# Altium schematic symbol library kmilo17pet-TI_BattMgmt.SchLib: 950 symbols (part 18 of 60)
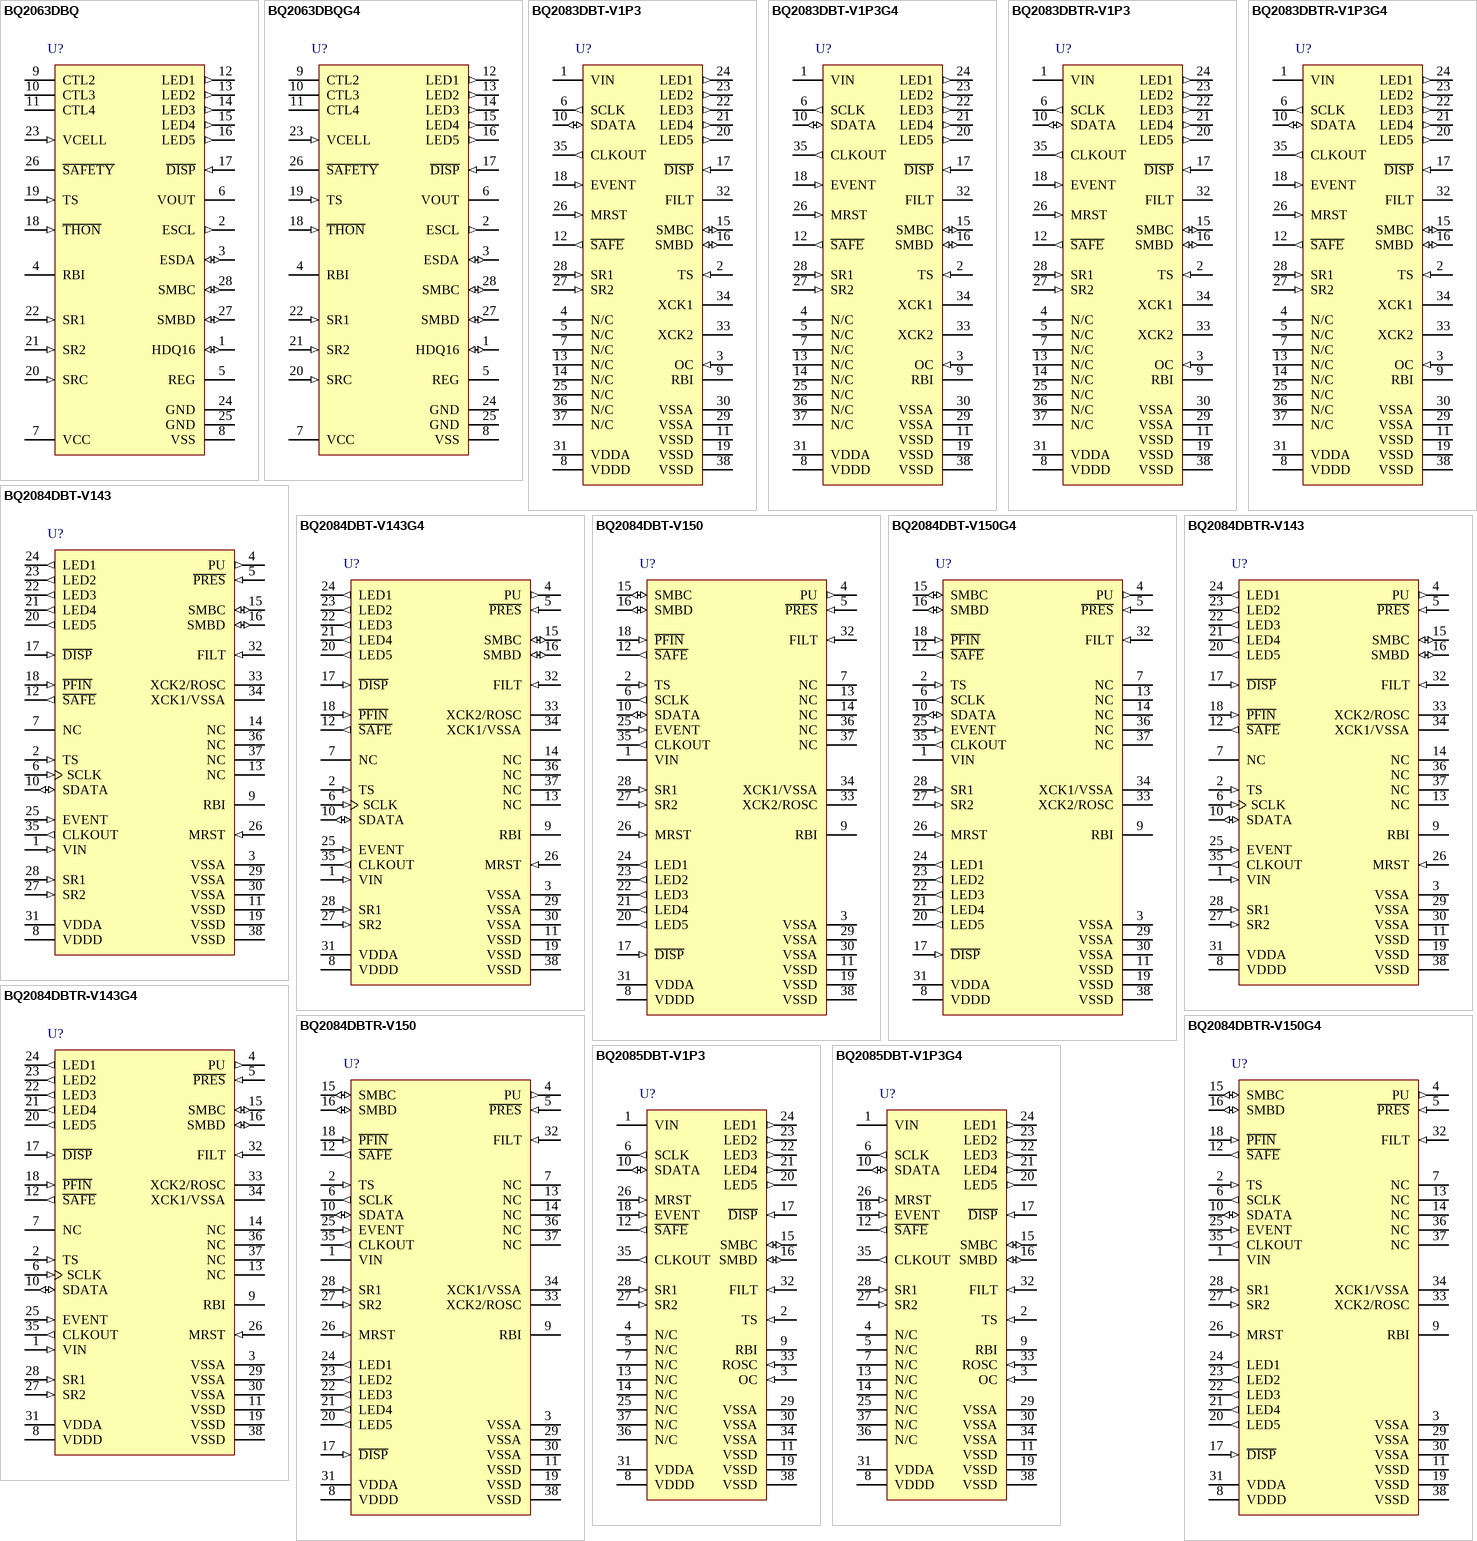
[diagram p51: symbols BQ2063DBQ to BQ2085DBT-V1P3G4]

## BQ2085DBT-V1P3G4
designator U?
SBS-Compliant Gas Gauge IC for Use with the bq29311, -20 to 85 degC, 38-pin TSSOP (DBT), Green (RoHS & no Sb/Br); PartNumber: BQ2085DBT-V1P3G4; Manufacturer: Texas Instruments; Lead Acid: N; SubFamily: Battery Fuel Gauge; DatasheetVersion: SLUS598; PackageVersion: revI, Mar-2011; PackageReference: DBT38; PackageDescription: 38-Pin Plastic Small Outline 0.5 mm Pitch; Supplier 1: Digi-Key; Supplier Part Number 1: BQ2085DBT-V1P3G4-ND; Supplier Part Number 3: 595-BQ2085DBT-V1P3G4; Eco-Plan: Green (RoHS & no Sb/Br); Li-Ion: N; Li-Polymer: N; NiCd: N; NiMH: N; Over Voltage Protection: N; Mounting Technology: Surface Mount; Code_JEDEC: MO-153; ComponentLink1Description: Datasheet; ComponentLink1URL: http://www.ti.com/general/docs/lit/getliterature.tsp?genericPartNumber=BQ2085-V1P3&fileType=pdf
footprint DBT38_N (TSSOP, 38-Leads, Body 9.7x4.4mm, Pitch 0.5mm, IPC Medium Density)
footprint DBT38_L (TSSOP, 38-Leads, Body 9.7x4.4mm, Pitch 0.5mm, IPC High Density)
footprint DBT38_M (TSSOP, 38-Leads, Body 9.7x4.4mm, Pitch 0.5mm, IPC Low Density)
pins: 1 VIN (power) "Single-cell voltage input from the bq29311", 2 TS (in) "Thermistor voltage input connection to monitor temperature", 3 OC (in) "Analog input for auto ADC offset compensation; should be connected to VSSA", 4 N/C "No connection", 5 N/C "No connection", 6 SCLK (out) "Communication clock to the bq29311", 7 N/C "No connection", 8 VDDD (power) "Positive supply for digital circuitry and I/O pins", 9 RBI (power) "Register backup that provides backup potential to the bq2085-V1P3 data registers during periods of low operating voltage. RBI accepts a storage capacitor or a battery input.", 10 SDATA (io) "Data transfer to and from bq29311", 11 VSSD (power) "Negative supply for digital circuitry", 12 ~{SAFE} (out) "Output for additional level of safety protection; e.g., fuse blow.", 13 N/C "No connection", 14 N/C "No connection", 15 SMBC (io) "SMBus clock open-drain bidirectional pin used to clock the data transfer to and from the bq2085-V1P3", 16 SMBD (io) "SMBus data open-drain bidirectional pin used to transfer address and data to and from the bq2085-V1P3", 17 ~{DISP} (in) "Display control for the LED drivers LED1 through LED5", 18 EVENT (in) "Input from bq29311 XALERT output", 19 VSSD (power) "Negative supply for digital circuitry", 20 LED5 (out) "LED display segments that each may drive an external LED", 21 LED4 (out) "LED display segments that each may drive an external LED", 22 LED3 (out) "LED display segments that each may drive an external LED", 23 LED2 (out) "LED display segments that each may drive an external LED", 24 LED1 (out) "LED display segments that each may drive an external LED", 25 N/C "No connection", 26 MRST (in) "Master reset input that forces the device into reset when held high", 27 SR2 (in) "Connections for a small-value sense resistor to monitor the battery charge- and discharge-current flow", 28 SR1 (in) "Connections for a small-value sense resistor to monitor the battery charge- and discharge-current flow", 29 VSSA (power) "Negative supply for output circuitry", 30 VSSA (power) "Negative supply for analog circuitry", 31 VDDA (power) "Positive supply for analog circuitry", 32 FILT (in) "Analog input connected to the external PLL filter", 33 ROSC (in) "Internal time base bias input", 34 VSSA (power) "Negative supply for analog circuitry", 35 CLKOUT (out) "32.768-kHz output to the bq29311", 36 N/C "No connection", 37 N/C "No connection", 38 VSSD (power) "Negative supply for digital circuitry"

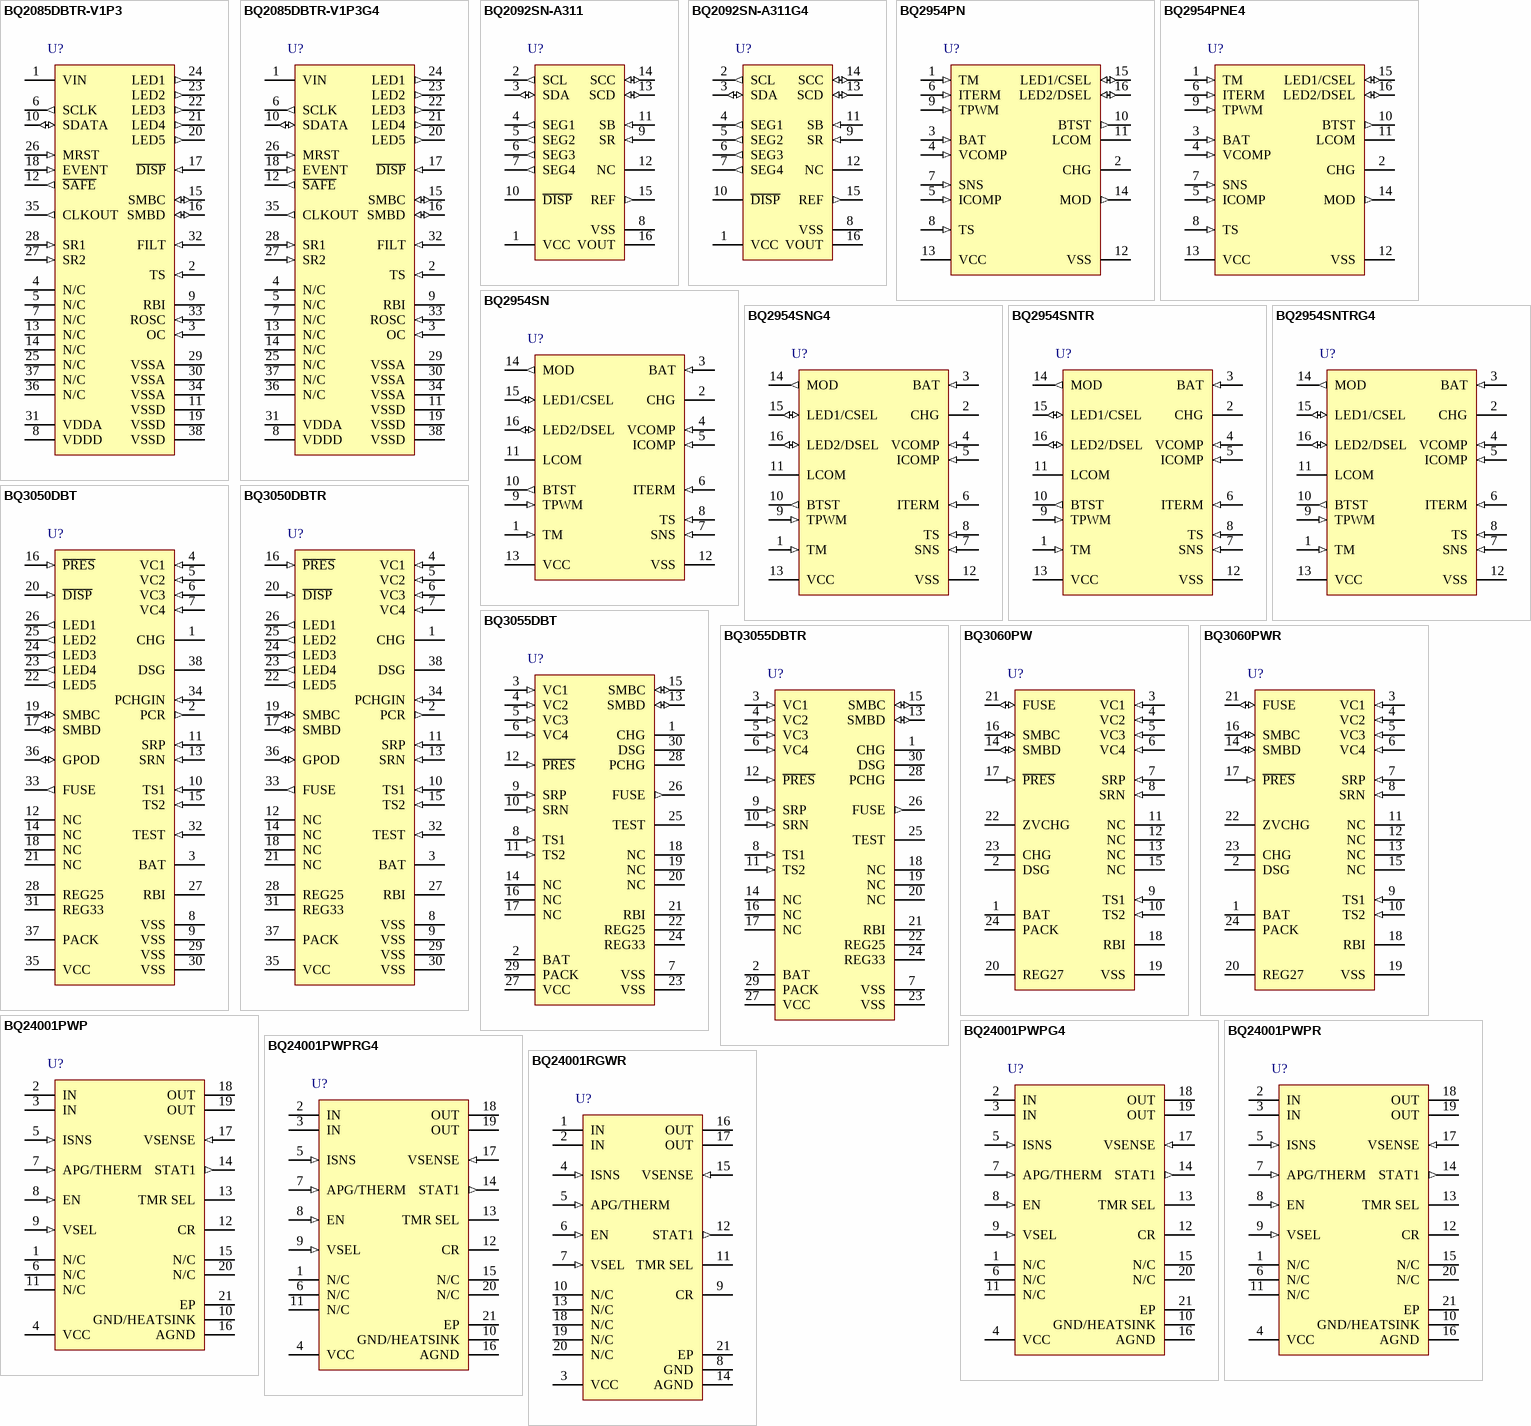
[diagram p10: symbols BQ2085DBTR-V1P3 to BQ24001RGWR]

## BQ2085DBTR-V1P3
designator U?
SBS-Compliant Gas Gauge IC for Use with the bq29311, -20 to 85 degC, 38-pin TSSOP (DBT), Green (RoHS & no Sb/Br); PartNumber: BQ2085DBTR-V1P3; Manufacturer: Texas Instruments; Lead Acid: N; SubFamily: Battery Fuel Gauge; DatasheetVersion: SLUS598; PackageVersion: revI, Mar-2011; PackageReference: DBT38; PackageDescription: 38-Pin Plastic Small Outline 0.5 mm Pitch; Supplier 1: Digi-Key; Supplier Part Number 1: BQ2085DBTR-V1P3-ND; Supplier Part Number 3: 595-BQ2085DBTR-V1P3; Eco-Plan: Green (RoHS & no Sb/Br); Li-Ion: N; Li-Polymer: N; NiCd: N; NiMH: N; Over Voltage Protection: N; Mounting Technology: Surface Mount; Code_JEDEC: MO-153; ComponentLink1Description: Datasheet; ComponentLink1URL: http://www.ti.com/general/docs/lit/getliterature.tsp?genericPartNumber=BQ2085-V1P3&fileType=pdf
footprint DBT38_N (TSSOP, 38-Leads, Body 9.7x4.4mm, Pitch 0.5mm, IPC Medium Density)
footprint DBT38_L (TSSOP, 38-Leads, Body 9.7x4.4mm, Pitch 0.5mm, IPC High Density)
footprint DBT38_M (TSSOP, 38-Leads, Body 9.7x4.4mm, Pitch 0.5mm, IPC Low Density)
pins: 1 VIN (power) "Single-cell voltage input from the bq29311", 2 TS (in) "Thermistor voltage input connection to monitor temperature", 3 OC (in) "Analog input for auto ADC offset compensation; should be connected to VSSA", 4 N/C "No connection", 5 N/C "No connection", 6 SCLK (out) "Communication clock to the bq29311", 7 N/C "No connection", 8 VDDD (power) "Positive supply for digital circuitry and I/O pins", 9 RBI (power) "Register backup that provides backup potential to the bq2085-V1P3 data registers during periods of low operating voltage. RBI accepts a storage capacitor or a battery input.", 10 SDATA (io) "Data transfer to and from bq29311", 11 VSSD (power) "Negative supply for digital circuitry", 12 ~{SAFE} (out) "Output for additional level of safety protection; e.g., fuse blow.", 13 N/C "No connection", 14 N/C "No connection", 15 SMBC (io) "SMBus clock open-drain bidirectional pin used to clock the data transfer to and from the bq2085-V1P3", 16 SMBD (io) "SMBus data open-drain bidirectional pin used to transfer address and data to and from the bq2085-V1P3", 17 ~{DISP} (in) "Display control for the LED drivers LED1 through LED5", 18 EVENT (in) "Input from bq29311 XALERT output", 19 VSSD (power) "Negative supply for digital circuitry", 20 LED5 (out) "LED display segments that each may drive an external LED", 21 LED4 (out) "LED display segments that each may drive an external LED", 22 LED3 (out) "LED display segments that each may drive an external LED", 23 LED2 (out) "LED display segments that each may drive an external LED", 24 LED1 (out) "LED display segments that each may drive an external LED", 25 N/C "No connection", 26 MRST (in) "Master reset input that forces the device into reset when held high", 27 SR2 (in) "Connections for a small-value sense resistor to monitor the battery charge- and discharge-current flow", 28 SR1 (in) "Connections for a small-value sense resistor to monitor the battery charge- and discharge-current flow", 29 VSSA (power) "Negative supply for output circuitry", 30 VSSA (power) "Negative supply for analog circuitry", 31 VDDA (power) "Positive supply for analog circuitry", 32 FILT (in) "Analog input connected to the external PLL filter", 33 ROSC (in) "Internal time base bias input", 34 VSSA (power) "Negative supply for analog circuitry", 35 CLKOUT (out) "32.768-kHz output to the bq29311", 36 N/C "No connection", 37 N/C "No connection", 38 VSSD (power) "Negative supply for digital circuitry"

## BQ2085DBTR-V1P3G4
designator U?
SBS-Compliant Gas Gauge IC for Use with the bq29311, -20 to 85 degC, 38-pin TSSOP (DBT), Green (RoHS & no Sb/Br); PartNumber: BQ2085DBTR-V1P3G4; Manufacturer: Texas Instruments; Lead Acid: N; SubFamily: Battery Fuel Gauge; DatasheetVersion: SLUS598; PackageVersion: revI, Mar-2011; PackageReference: DBT38; PackageDescription: 38-Pin Plastic Small Outline 0.5 mm Pitch; Supplier 1: Digi-Key; Supplier Part Number 1: BQ2085DBTR-V1P3G4-ND; Supplier Part Number 3: 595-BQ2085DBTR1P3G4; Eco-Plan: Green (RoHS & no Sb/Br); Li-Ion: N; Li-Polymer: N; NiCd: N; NiMH: N; Over Voltage Protection: N; Mounting Technology: Surface Mount; Code_JEDEC: MO-153; ComponentLink1Description: Datasheet; ComponentLink1URL: http://www.ti.com/general/docs/lit/getliterature.tsp?genericPartNumber=BQ2085-V1P3&fileType=pdf
footprint DBT38_N (TSSOP, 38-Leads, Body 9.7x4.4mm, Pitch 0.5mm, IPC Medium Density)
footprint DBT38_L (TSSOP, 38-Leads, Body 9.7x4.4mm, Pitch 0.5mm, IPC High Density)
footprint DBT38_M (TSSOP, 38-Leads, Body 9.7x4.4mm, Pitch 0.5mm, IPC Low Density)
pins: 1 VIN (power) "Single-cell voltage input from the bq29311", 2 TS (in) "Thermistor voltage input connection to monitor temperature", 3 OC (in) "Analog input for auto ADC offset compensation; should be connected to VSSA", 4 N/C "No connection", 5 N/C "No connection", 6 SCLK (out) "Communication clock to the bq29311", 7 N/C "No connection", 8 VDDD (power) "Positive supply for digital circuitry and I/O pins", 9 RBI (power) "Register backup that provides backup potential to the bq2085-V1P3 data registers during periods of low operating voltage. RBI accepts a storage capacitor or a battery input.", 10 SDATA (io) "Data transfer to and from bq29311", 11 VSSD (power) "Negative supply for digital circuitry", 12 ~{SAFE} (out) "Output for additional level of safety protection; e.g., fuse blow.", 13 N/C "No connection", 14 N/C "No connection", 15 SMBC (io) "SMBus clock open-drain bidirectional pin used to clock the data transfer to and from the bq2085-V1P3", 16 SMBD (io) "SMBus data open-drain bidirectional pin used to transfer address and data to and from the bq2085-V1P3", 17 ~{DISP} (in) "Display control for the LED drivers LED1 through LED5", 18 EVENT (in) "Input from bq29311 XALERT output", 19 VSSD (power) "Negative supply for digital circuitry", 20 LED5 (out) "LED display segments that each may drive an external LED", 21 LED4 (out) "LED display segments that each may drive an external LED", 22 LED3 (out) "LED display segments that each may drive an external LED", 23 LED2 (out) "LED display segments that each may drive an external LED", 24 LED1 (out) "LED display segments that each may drive an external LED", 25 N/C "No connection", 26 MRST (in) "Master reset input that forces the device into reset when held high", 27 SR2 (in) "Connections for a small-value sense resistor to monitor the battery charge- and discharge-current flow", 28 SR1 (in) "Connections for a small-value sense resistor to monitor the battery charge- and discharge-current flow", 29 VSSA (power) "Negative supply for output circuitry", 30 VSSA (power) "Negative supply for analog circuitry", 31 VDDA (power) "Positive supply for analog circuitry", 32 FILT (in) "Analog input connected to the external PLL filter", 33 ROSC (in) "Internal time base bias input", 34 VSSA (power) "Negative supply for analog circuitry", 35 CLKOUT (out) "32.768-kHz output to the bq29311", 36 N/C "No connection", 37 N/C "No connection", 38 VSSD (power) "Negative supply for digital circuitry"

## BQ2092SN-A311
designator U?
Multi-Chemistry SBS 0.95 Compliant Gas Gauge with 4 LED Drivers, 0 to 70 degC, 16-pin SOIC (D), Green (RoHS & no Sb/Br); PartNumber: BQ2092SN-A311; Manufacturer: Texas Instruments; Lead Acid: Y; Li-Polymer: N; SubFamily: Battery Fuel Gauge; PackageVersion: revM, Jun-2011; PackageReference: D16; PackageDescription: 16-Pin Plastic Small Outline Integrated Circuit, 9.9 x 3.9 mm, Pitch 1.27 mm Pitch; Supplier 1: Digi-Key; Supplier Part Number 1: BQ2092SN-A311-ND; Supplier Part Number 3: 595-BQ2092SN-A311; Eco-Plan: Green (RoHS & no Sb/Br); Li-Ion: Y; NiCd: Y; NiMH: Y; Over Voltage Protection: N; Mounting Technology: Surface Mount; Code_JEDEC: MS-012AC; ComponentLink1Description: Datasheet; ComponentLink1URL: http://www.ti.com/general/docs/lit/getliterature.tsp?genericPartNumber=BQ2092&fileType=pdf
footprint D16_N (SOIC, 16-Leads, Body 9.9x3.9mm, Pitch 1.27mm, IPC Medium Density)
footprint D16_L (SOIC, 16-Leads, Body 9.9x3.9mm, Pitch 1.27mm, IPC High Density)
footprint D16_M (SOIC, 16-Leads, Body 9.9x3.9mm, Pitch 1.27mm, IPC Low Density)
pins: 1 VCC (power) "Supply voltage input", 2 SCL (out) "This output is used to clock the data transfer between the bq2092 and the external nonvolatile configuration memory.", 3 SDA (io) "This bi-directional pin is used to transfer address and data to and from the bq2092 and the external configuration memory.", 4 SEG1 (out) "Each output may activate an external LED to sink the current sourced from VCC.", 5 SEG2 (out) "Each output may activate an external LED to sink the current sourced from VCC.", 6 SEG3 (out) "Each output may activate an external LED to sink the current sourced from VCC.", 7 SEG4 (out) "Each output may activate an external LED to sink the current sourced from VCC.", 8 VSS (power) "Ground", 9 SR (in) "The voltage drop (VSR) across pins SR and VSS is monitored and integrated over time to interpret charge and discharge activity.The SR input is connected to the sense resistor and the negative terminal of the battery. VSR < (See Datasheet)", 10 ~{DISP} "D\I\S\P\ high disables the LED display.D\I\S\P\ floating allows the LED display to be active during charge if the rate is greater than 100mA.D\I\S\P\ low activates the display for 4 seconds.", 11 SB (in) "This input monitors the cell pack voltage as a single-cell potential through a highimpedance resistor divider network. The cell pack voltage is reported in the SBD register function Voltage (0x09) and is compared to (See Datasheet)", 12 NC "No connect", 13 SCD (io) "This open-drain bidirectional pin is used to transfer address and data to and from the bq2092.", 14 SCC (io) "This open-drain bidirectional pin is used to clock the data transfer to and from the bq2092.", 15 REF (out) "REF provides a reference output for an optional micro-regulator.", 16 VOUT (power) "This output supplies power to the external EEPROM configuration memory."

## BQ2092SN-A311G4
designator U?
Multi-Chemistry SBS 0.95 Compliant Gas Gauge with 4 LED Drivers, 0 to 70 degC, 16-pin SOIC (D), Green (RoHS & no Sb/Br); PartNumber: BQ2092SN-A311G4; Manufacturer: Texas Instruments; Lead Acid: Y; Li-Polymer: N; SubFamily: Battery Fuel Gauge; PackageVersion: revM, Jun-2011; PackageReference: D16; PackageDescription: 16-Pin Plastic Small Outline Integrated Circuit, 9.9 x 3.9 mm, Pitch 1.27 mm Pitch; Supplier 1: Digi-Key; Supplier Part Number 1: BQ2092SN-A311G4-ND; Supplier Part Number 3: 595-BQ2092SN-A311G4; Eco-Plan: Green (RoHS & no Sb/Br); Li-Ion: Y; NiCd: Y; NiMH: Y; Over Voltage Protection: N; Mounting Technology: Surface Mount; Code_JEDEC: MS-012AC; ComponentLink1Description: Datasheet; ComponentLink1URL: http://www.ti.com/general/docs/lit/getliterature.tsp?genericPartNumber=BQ2092&fileType=pdf
footprint D16_N (SOIC, 16-Leads, Body 9.9x3.9mm, Pitch 1.27mm, IPC Medium Density)
footprint D16_L (SOIC, 16-Leads, Body 9.9x3.9mm, Pitch 1.27mm, IPC High Density)
footprint D16_M (SOIC, 16-Leads, Body 9.9x3.9mm, Pitch 1.27mm, IPC Low Density)
pins: 1 VCC (power) "Supply voltage input", 2 SCL (out) "This output is used to clock the data transfer between the bq2092 and the external nonvolatile configuration memory.", 3 SDA (io) "This bi-directional pin is used to transfer address and data to and from the bq2092 and the external configuration memory.", 4 SEG1 (out) "Each output may activate an external LED to sink the current sourced from VCC.", 5 SEG2 (out) "Each output may activate an external LED to sink the current sourced from VCC.", 6 SEG3 (out) "Each output may activate an external LED to sink the current sourced from VCC.", 7 SEG4 (out) "Each output may activate an external LED to sink the current sourced from VCC.", 8 VSS (power) "Ground", 9 SR (in) "The voltage drop (VSR) across pins SR and VSS is monitored and integrated over time to interpret charge and discharge activity.The SR input is connected to the sense resistor and the negative terminal of the battery. VSR < (See Datasheet)", 10 ~{DISP} "D\I\S\P\ high disables the LED display.D\I\S\P\ floating allows the LED display to be active during charge if the rate is greater than 100mA.D\I\S\P\ low activates the display for 4 seconds.", 11 SB (in) "This input monitors the cell pack voltage as a single-cell potential through a highimpedance resistor divider network. The cell pack voltage is reported in the SBD register function Voltage (0x09) and is compared to (See Datasheet)", 12 NC "No connect", 13 SCD (io) "This open-drain bidirectional pin is used to transfer address and data to and from the bq2092.", 14 SCC (io) "This open-drain bidirectional pin is used to clock the data transfer to and from the bq2092.", 15 REF (out) "REF provides a reference output for an optional micro-regulator.", 16 VOUT (power) "This output supplies power to the external EEPROM configuration memory."

## BQ2954PN
designator U?
Switch-Mode Li-Ion Charge Controller, 4.5 V, 0 to 70 degC, 16-pin PDIP (N), Pb-Free (RoHS); PartNumber: BQ2954PN; Manufacturer: Texas Instruments; Li-Ion: Y; SubFamily: Battery Charge Management; Vin(Min)(V): 4.5; DatasheetVersion: SLUS064; PackageVersion: revE, Dec-2002; PackageReference: N16; PackageDescription: 16-Pin Plastic Dual-In-Line Package, Row Spacing 7.62 mm, Pitch 2.54 mm; Supplier 1: Digi-Key; Supplier Part Number 1: 296-9387-5-ND; Supplier Part Number 3: 595-BQ2954PN; Eco-Plan: Pb-Free (RoHS); Lead Acid: N; Li-Polymer: Y; NiCd: N; NiMH: N; Over Voltage Protection: N; Mounting Technology: Through Hole; Code_JEDEC: MS-001*; ComponentLink1Description: Datasheet; ComponentLink1URL: http://www.ti.com/general/docs/lit/getliterature.tsp?genericPartNumber=BQ2954&fileType=pdf
footprint N16 (DIP, 16-Leads, Row Spacing 7.62mm, Pitch 2.54mm, Body 19.3x6.4mm)
pins: 1 TM (in) "Time-out programming input", 2 CHG (oc) "Charge active output", 3 BAT (in) "Battery voltage input", 4 VCOMP (in) "Voltage loop comp input", 5 ICOMP (in) "Current loop comp input", 6 ITERM (in) "Minimum current termination select input", 7 SNS (in) "Sense resistor input", 8 TS (in) "Temperature sense input", 9 TPWM (in) "Regulator timebase input", 10 BTST (out) "Battery test output", 11 LCOM (hiz) "Common LED output", 12 VSS (power) "System ground", 13 VCC (power) "5.0V+/-10% power", 14 MOD (out) "Modulation control output", 15 LED1/CSEL (io) "Charge status output 1/Charge sense select input", 16 LED2/DSEL (io) "Charge status output 2/Display select input"

## BQ2954PNE4
designator U?
Switch-Mode Li-Ion Charge Controller, 4.5 V, 0 to 70 degC, 16-pin PDIP (N), Pb-Free (RoHS); PartNumber: BQ2954PNE4; Manufacturer: Texas Instruments; Li-Ion: Y; SubFamily: Battery Charge Management; Vin(Min)(V): 4.5; DatasheetVersion: SLUS064; PackageVersion: revE, Dec-2002; PackageReference: N16; PackageDescription: 16-Pin Plastic Dual-In-Line Package, Row Spacing 7.62 mm, Pitch 2.54 mm; Supplier 1: Digi-Key; Supplier Part Number 1: BQ2954PNE4-ND; Supplier Part Number 3: 595-BQ2954PNE4; Eco-Plan: Pb-Free (RoHS); Lead Acid: N; Li-Polymer: Y; NiCd: N; NiMH: N; Over Voltage Protection: N; Mounting Technology: Through Hole; Code_JEDEC: MS-001*; ComponentLink1Description: Datasheet; ComponentLink1URL: http://www.ti.com/general/docs/lit/getliterature.tsp?genericPartNumber=BQ2954&fileType=pdf
footprint N16 (DIP, 16-Leads, Row Spacing 7.62mm, Pitch 2.54mm, Body 19.3x6.4mm)
pins: 1 TM (in) "Time-out programming input", 2 CHG (oc) "Charge active output", 3 BAT (in) "Battery voltage input", 4 VCOMP (in) "Voltage loop comp input", 5 ICOMP (in) "Current loop comp input", 6 ITERM (in) "Minimum current termination select input", 7 SNS (in) "Sense resistor input", 8 TS (in) "Temperature sense input", 9 TPWM (in) "Regulator timebase input", 10 BTST (out) "Battery test output", 11 LCOM (hiz) "Common LED output", 12 VSS (power) "System ground", 13 VCC (power) "5.0V+/-10% power", 14 MOD (out) "Modulation control output", 15 LED1/CSEL (io) "Charge status output 1/Charge sense select input", 16 LED2/DSEL (io) "Charge status output 2/Display select input"

## BQ2954SN
designator U?
Switch-Mode Li-Ion Charge Controller, 4.5 V, 0 to 70 degC, 16-pin SOIC (D), Green (RoHS & no Sb/Br); PartNumber: BQ2954SN; Manufacturer: Texas Instruments; Lead Acid: N; Li-Ion: Y; SubFamily: Battery Charge Management; Vin(Min)(V): 4.5; DatasheetVersion: SLUS064; PackageVersion: revM, Jun-2011; PackageReference: D16; PackageDescription: 16-Pin Plastic Small Outline Integrated Circuit, 9.9 x 3.9 mm, Pitch 1.27 mm Pitch; Supplier 1: Digi-Key; Supplier Part Number 1: 296-9388-5-ND; Supplier Part Number 3: 74C7685; Eco-Plan: Green (RoHS & no Sb/Br); Li-Polymer: Y; NiCd: N; NiMH: N; Over Voltage Protection: N; Mounting Technology: Surface Mount; Code_JEDEC: MS-012AC; ComponentLink1Description: Datasheet; ComponentLink1URL: http://www.ti.com/general/docs/lit/getliterature.tsp?genericPartNumber=BQ2954&fileType=pdf
footprint D16_N (SOIC, 16-Leads, Body 9.9x3.9mm, Pitch 1.27mm, IPC Medium Density)
footprint D16_L (SOIC, 16-Leads, Body 9.9x3.9mm, Pitch 1.27mm, IPC High Density)
footprint D16_M (SOIC, 16-Leads, Body 9.9x3.9mm, Pitch 1.27mm, IPC Low Density)
pins: 1 TM (in) "Time-out programming input", 2 CHG (oc) "Charge active output", 3 BAT (in) "Battery voltage input", 4 VCOMP (in) "Voltage loop comp input", 5 ICOMP (in) "Current loop comp input", 6 ITERM (in) "Minimum current termination select input", 7 SNS (in) "Sense resistor input", 8 TS (in) "Temperature sense input", 9 TPWM (in) "Regulator timebase input", 10 BTST (out) "Battery test output", 11 LCOM (hiz) "Common LED output", 12 VSS (power) "System ground", 13 VCC (power) "5.0V+/-10% power", 14 MOD (out) "Modulation control output", 15 LED1/CSEL (io) "Charge status output 1/Charge sense select input", 16 LED2/DSEL (io) "Charge status output 2/Display select input"

## BQ2954SNG4
designator U?
Switch-Mode Li-Ion Charge Controller, 4.5 V, 0 to 70 degC, 16-pin SOIC (D), Green (RoHS & no Sb/Br); PartNumber: BQ2954SNG4; Manufacturer: Texas Instruments; Lead Acid: N; Li-Ion: Y; SubFamily: Battery Charge Management; Vin(Min)(V): 4.5; DatasheetVersion: SLUS064; PackageVersion: revM, Jun-2011; PackageReference: D16; PackageDescription: 16-Pin Plastic Small Outline Integrated Circuit, 9.9 x 3.9 mm, Pitch 1.27 mm Pitch; Supplier 1: Digi-Key; Supplier Part Number 1: BQ2954SNG4-ND; Supplier Part Number 3: 595-BQ2954SNG4; Eco-Plan: Green (RoHS & no Sb/Br); Li-Polymer: Y; NiCd: N; NiMH: N; Over Voltage Protection: N; Mounting Technology: Surface Mount; Code_JEDEC: MS-012AC; ComponentLink1Description: Datasheet; ComponentLink1URL: http://www.ti.com/general/docs/lit/getliterature.tsp?genericPartNumber=BQ2954&fileType=pdf
footprint D16_N (SOIC, 16-Leads, Body 9.9x3.9mm, Pitch 1.27mm, IPC Medium Density)
footprint D16_L (SOIC, 16-Leads, Body 9.9x3.9mm, Pitch 1.27mm, IPC High Density)
footprint D16_M (SOIC, 16-Leads, Body 9.9x3.9mm, Pitch 1.27mm, IPC Low Density)
pins: 1 TM (in) "Time-out programming input", 2 CHG (oc) "Charge active output", 3 BAT (in) "Battery voltage input", 4 VCOMP (in) "Voltage loop comp input", 5 ICOMP (in) "Current loop comp input", 6 ITERM (in) "Minimum current termination select input", 7 SNS (in) "Sense resistor input", 8 TS (in) "Temperature sense input", 9 TPWM (in) "Regulator timebase input", 10 BTST (out) "Battery test output", 11 LCOM (hiz) "Common LED output", 12 VSS (power) "System ground", 13 VCC (power) "5.0V+/-10% power", 14 MOD (out) "Modulation control output", 15 LED1/CSEL (io) "Charge status output 1/Charge sense select input", 16 LED2/DSEL (io) "Charge status output 2/Display select input"

## BQ2954SNTR
designator U?
Switch-Mode Li-Ion Charge Controller, 4.5 V, 0 to 70 degC, 16-pin SOIC (D), Green (RoHS & no Sb/Br); PartNumber: BQ2954SNTR; Manufacturer: Texas Instruments; Lead Acid: N; Li-Ion: Y; SubFamily: Battery Charge Management; Vin(Min)(V): 4.5; DatasheetVersion: SLUS064; PackageVersion: revM, Jun-2011; PackageReference: D16; PackageDescription: 16-Pin Plastic Small Outline Integrated Circuit, 9.9 x 3.9 mm, Pitch 1.27 mm Pitch; Supplier 1: Digi-Key; Supplier Part Number 1: BQ2954SNTR-ND; Supplier Part Number 3: 595-BQ2954SNTR; Eco-Plan: Green (RoHS & no Sb/Br); Li-Polymer: Y; NiCd: N; NiMH: N; Over Voltage Protection: N; Mounting Technology: Surface Mount; Code_JEDEC: MS-012AC; ComponentLink1Description: Datasheet; ComponentLink1URL: http://www.ti.com/general/docs/lit/getliterature.tsp?genericPartNumber=BQ2954&fileType=pdf
footprint D16_N (SOIC, 16-Leads, Body 9.9x3.9mm, Pitch 1.27mm, IPC Medium Density)
footprint D16_L (SOIC, 16-Leads, Body 9.9x3.9mm, Pitch 1.27mm, IPC High Density)
footprint D16_M (SOIC, 16-Leads, Body 9.9x3.9mm, Pitch 1.27mm, IPC Low Density)
pins: 1 TM (in) "Time-out programming input", 2 CHG (oc) "Charge active output", 3 BAT (in) "Battery voltage input", 4 VCOMP (in) "Voltage loop comp input", 5 ICOMP (in) "Current loop comp input", 6 ITERM (in) "Minimum current termination select input", 7 SNS (in) "Sense resistor input", 8 TS (in) "Temperature sense input", 9 TPWM (in) "Regulator timebase input", 10 BTST (out) "Battery test output", 11 LCOM (hiz) "Common LED output", 12 VSS (power) "System ground", 13 VCC (power) "5.0V+/-10% power", 14 MOD (out) "Modulation control output", 15 LED1/CSEL (io) "Charge status output 1/Charge sense select input", 16 LED2/DSEL (io) "Charge status output 2/Display select input"

## BQ2954SNTRG4
designator U?
Switch-Mode Li-Ion Charge Controller, 4.5 V, 0 to 70 degC, 16-pin SOIC (D), Green (RoHS & no Sb/Br); PartNumber: BQ2954SNTRG4; Manufacturer: Texas Instruments; Lead Acid: N; Li-Ion: Y; SubFamily: Battery Charge Management; Vin(Min)(V): 4.5; DatasheetVersion: SLUS064; PackageVersion: revM, Jun-2011; PackageReference: D16; PackageDescription: 16-Pin Plastic Small Outline Integrated Circuit, 9.9 x 3.9 mm, Pitch 1.27 mm Pitch; Supplier 1: Digi-Key; Supplier Part Number 1: BQ2954SNTRG4-ND; Supplier Part Number 3: 595-BQ2954SNTRG4; Eco-Plan: Green (RoHS & no Sb/Br); Li-Polymer: Y; NiCd: N; NiMH: N; Over Voltage Protection: N; Mounting Technology: Surface Mount; Code_JEDEC: MS-012AC; ComponentLink1Description: Datasheet; ComponentLink1URL: http://www.ti.com/general/docs/lit/getliterature.tsp?genericPartNumber=BQ2954&fileType=pdf
footprint D16_N (SOIC, 16-Leads, Body 9.9x3.9mm, Pitch 1.27mm, IPC Medium Density)
footprint D16_L (SOIC, 16-Leads, Body 9.9x3.9mm, Pitch 1.27mm, IPC High Density)
footprint D16_M (SOIC, 16-Leads, Body 9.9x3.9mm, Pitch 1.27mm, IPC Low Density)
pins: 1 TM (in) "Time-out programming input", 2 CHG (oc) "Charge active output", 3 BAT (in) "Battery voltage input", 4 VCOMP (in) "Voltage loop comp input", 5 ICOMP (in) "Current loop comp input", 6 ITERM (in) "Minimum current termination select input", 7 SNS (in) "Sense resistor input", 8 TS (in) "Temperature sense input", 9 TPWM (in) "Regulator timebase input", 10 BTST (out) "Battery test output", 11 LCOM (hiz) "Common LED output", 12 VSS (power) "System ground", 13 VCC (power) "5.0V+/-10% power", 14 MOD (out) "Modulation control output", 15 LED1/CSEL (io) "Charge status output 1/Charge sense select input", 16 LED2/DSEL (io) "Charge status output 2/Display select input"

## BQ3050DBT
designator U?
SBS 1.1-Compliant 2S to 4S Battery Gas Gauge & Protection, -40 to 85 degC, 38-pin TSSOP (DBT), Green (RoHS & no Sb/Br); PartNumber: BQ3050DBT; Manufacturer: Texas Instruments; Lead Acid: N; Li-Ion: Y; SubFamily: Battery Fuel Gauge; DatasheetVersion: SLUSA92A; PackageVersion: revI, Mar-2011; PackageReference: DBT38; PackageDescription: 38-Pin Plastic Small Outline 0.5 mm Pitch; Supplier 1: Digi-Key; Supplier Part Number 1: BQ3050DBT-ND; Supplier Part Number 3: 595-BQ3050DBT; Eco-Plan: Green (RoHS & no Sb/Br); Li-Polymer: Y; NiCd: N; NiMH: N; Over Voltage Protection: N; Mounting Technology: Surface Mount; Code_JEDEC: MO-153; ComponentLink1Description: Datasheet; ComponentLink1URL: http://www.ti.com/general/docs/lit/getliterature.tsp?genericPartNumber=BQ3050&fileType=pdf
footprint DBT38_N (TSSOP, 38-Leads, Body 9.7x4.4mm, Pitch 0.5mm, IPC Medium Density)
footprint DBT38_L (TSSOP, 38-Leads, Body 9.7x4.4mm, Pitch 0.5mm, IPC High Density)
footprint DBT38_M (TSSOP, 38-Leads, Body 9.7x4.4mm, Pitch 0.5mm, IPC Low Density)
pins: 1 CHG "Charge N-FET gate drive", 2 PCR (out) "Internal Pre-Charge FET output", 3 BAT (power) "Alternate power source", 4 VC1 (in) "Sense input for positive voltage of top most cell in stack and cell balancing input for top most cell in stack", 5 VC2 (in) "Sense input for positive voltage of third lowest cell in stack and cell balancing input for third lowest cell in stack", 6 VC3 (in) "Sense input for positive voltage of second lowest cell in stack and cell balancing input for second lowest cell in stack", 7 VC4 (in) "Sense input for positive voltage of lowest cell in stack and cell balancing input for lowest cell in stack", 8 VSS (power) "Device ground", 9 VSS (power) "Device ground", 10 TS1 (in) "Temperature sensor 1 thermistor input", 11 SRP (in) "Differential Coulomb Counter input", 12 NC (power) "Not internally connected, connect to VSS", 13 SRN (in) "Differential Coulomb Counter input", 14 NC (power) "Not internally connected, connect to VSS", 15 TS2 (in) "Temperature sensor 2 thermistor input", 16 ~{PRES} (in) "Host system present input", 17 SMBD (io) "SMBus v1.1 data line", 18 NC (power) "Not internally connected, connect to VSS", 19 SMBC (io) "SMBus v1.1 clock line", 20 ~{DISP} (in) "Display active input", 21 NC (power) "Not internally connected, connect to VSS", 22 LED5 (out) "LED display constant current sink", 23 LED4 (out) "LED display constant current sink", 24 LED3 (out) "LED display constant current sink", 25 LED2 (out) "LED display constant current sink", 26 LED1 (out) "LED display constant current sink", 27 RBI (power) "RAM backup", 28 REG25 (power) "2.5-V regulator output", 29 VSS (power) "Device ground", 30 VSS (power) "Device ground", 31 REG33 (power) "3.3-V regulator output", 32 TEST (in) "Test pin, connect to VSS through 10-k ohm resistor", 33 FUSE (out) "Fuse drive", 34 PCHGIN (in) "Internal Pre-Charge FET input", 35 VCC (power) "Power supply voltage", 36 GPOD (io) "High voltage general purpose I/O", 37 PACK (power) "Alternate power source", 38 DSG "Discharge N-FET gate drive"

## BQ3050DBTR
designator U?
SBS 1.1-Compliant 2S to 4S Battery Gas Gauge & Protection, -40 to 85 degC, 38-pin TSSOP (DBT), Green (RoHS & no Sb/Br); PartNumber: BQ3050DBTR; Manufacturer: Texas Instruments; Lead Acid: N; Li-Ion: Y; SubFamily: Battery Fuel Gauge; DatasheetVersion: SLUSA92A; PackageVersion: revI, Mar-2011; PackageReference: DBT38; PackageDescription: 38-Pin Plastic Small Outline 0.5 mm Pitch; Supplier 1: Digi-Key; Supplier Part Number 1: BQ3050DBTR-ND; Supplier Part Number 3: 595-BQ3050DBTR; Eco-Plan: Green (RoHS & no Sb/Br); Li-Polymer: Y; NiCd: N; NiMH: N; Over Voltage Protection: N; Mounting Technology: Surface Mount; Code_JEDEC: MO-153; ComponentLink1Description: Datasheet; ComponentLink1URL: http://www.ti.com/general/docs/lit/getliterature.tsp?genericPartNumber=BQ3050&fileType=pdf
footprint DBT38_N (TSSOP, 38-Leads, Body 9.7x4.4mm, Pitch 0.5mm, IPC Medium Density)
footprint DBT38_L (TSSOP, 38-Leads, Body 9.7x4.4mm, Pitch 0.5mm, IPC High Density)
footprint DBT38_M (TSSOP, 38-Leads, Body 9.7x4.4mm, Pitch 0.5mm, IPC Low Density)
pins: 1 CHG "Charge N-FET gate drive", 2 PCR (out) "Internal Pre-Charge FET output", 3 BAT (power) "Alternate power source", 4 VC1 (in) "Sense input for positive voltage of top most cell in stack and cell balancing input for top most cell in stack", 5 VC2 (in) "Sense input for positive voltage of third lowest cell in stack and cell balancing input for third lowest cell in stack", 6 VC3 (in) "Sense input for positive voltage of second lowest cell in stack and cell balancing input for second lowest cell in stack", 7 VC4 (in) "Sense input for positive voltage of lowest cell in stack and cell balancing input for lowest cell in stack", 8 VSS (power) "Device ground", 9 VSS (power) "Device ground", 10 TS1 (in) "Temperature sensor 1 thermistor input", 11 SRP (in) "Differential Coulomb Counter input", 12 NC (power) "Not internally connected, connect to VSS", 13 SRN (in) "Differential Coulomb Counter input", 14 NC (power) "Not internally connected, connect to VSS", 15 TS2 (in) "Temperature sensor 2 thermistor input", 16 ~{PRES} (in) "Host system present input", 17 SMBD (io) "SMBus v1.1 data line", 18 NC (power) "Not internally connected, connect to VSS", 19 SMBC (io) "SMBus v1.1 clock line", 20 ~{DISP} (in) "Display active input", 21 NC (power) "Not internally connected, connect to VSS", 22 LED5 (out) "LED display constant current sink", 23 LED4 (out) "LED display constant current sink", 24 LED3 (out) "LED display constant current sink", 25 LED2 (out) "LED display constant current sink", 26 LED1 (out) "LED display constant current sink", 27 RBI (power) "RAM backup", 28 REG25 (power) "2.5-V regulator output", 29 VSS (power) "Device ground", 30 VSS (power) "Device ground", 31 REG33 (power) "3.3-V regulator output", 32 TEST (in) "Test pin, connect to VSS through 10-k ohm resistor", 33 FUSE (out) "Fuse drive", 34 PCHGIN (in) "Internal Pre-Charge FET input", 35 VCC (power) "Power supply voltage", 36 GPOD (io) "High voltage general purpose I/O", 37 PACK (power) "Alternate power source", 38 DSG "Discharge N-FET gate drive"

## BQ3055DBT
designator U?
2-Series, 3-Series, and 4-Series Li-Ion Battery Pack Manager, -40 to 85 degC, 30-pin TSSOP (DBT), Green (RoHS & no Sb/Br); PartNumber: BQ3055DBT; Manufacturer: Texas Instruments; Lead Acid: N; Li-Ion: Y; SubFamily: Battery Fuel Gauge; DatasheetVersion: SLUSA91A; PackageVersion: 38596; PackageReference: DBT30; PackageDescription: 30-Pin Thin Shrink Small Outline Package 0.5 mm Pitch; Supplier 1: Digi-Key; Supplier Part Number 1: BQ3055DBT-ND; Supplier Part Number 3: 595-BQ3055DBT; Eco-Plan: Green (RoHS & no Sb/Br); Li-Polymer: Y; NiCd: N; NiMH: N; Over Voltage Protection: N; Mounting Technology: Surface Mount; Code_JEDEC: MO-153; ComponentLink1Description: Datasheet; ComponentLink1URL: http://www.ti.com/general/docs/lit/getliterature.tsp?genericPartNumber=BQ3055&fileType=pdf
footprint DBT30_N (TSSOP, 30-Leads, Body 7.8x4.4mm, Pitch 0.5mm, IPC Medium Density)
footprint DBT30_L (TSSOP, 30-Leads, Body 7.8x4.4mm, Pitch 0.5mm, IPC High Density)
footprint DBT30_M (TSSOP, 30-Leads, Body 7.8x4.4mm, Pitch 0.5mm, IPC Low Density)
pins: 1 CHG "Charge N-FET gate drive", 2 BAT (power) "Alternate power source", 3 VC1 (in) "Sense input for positive voltage of top most cell in stack and cell balancing input for top most cell in stack", 4 VC2 (in) "Sense input for positive voltage of third lowest cell in stack and cell balancing input for third lowest cell in stack", 5 VC3 (in) "Sense input for positive voltage of second lowest cell in stack and cell balancing input for second lowest cell in stack", 6 VC4 (in) "Sense input for positive voltage of lowest cell in stack and cell balancing input for lowest cell in stack", 7 VSS (power) "Device ground", 8 TS1 (in) "Temperature sensor 1 thermistor input", 9 SRP (in) "Differential Coulomb Counter input", 10 SRN (in) "Differential Coulomb Counter input", 11 TS2 (in) "Temperature sensor 2 thermistor input", 12 ~{PRES} (in) "Host system present input", 13 SMBD (io) "SMBus v1.1 data line", 14 NC (power) "Not internally connected, connect to VSS", 15 SMBC (io) "SMBus v1.1 clock line", 16 NC (power) "Not internally connected, connect to VSS", 17 NC (power) "Not internally connected, connect to VSS", 18 NC (power) "Not internally connected, connect to VSS", 19 NC (power) "Not internally connected, connect to VSS", 20 NC (power) "Not internally connected, connect to VSS", 21 RBI (power) "RAM backup", 22 REG25 (power) "2.5-V regulator output", 23 VSS (power) "Device ground", 24 REG33 (power) "3.3-V regulator output", 25 TEST "Test pin, connect to VSS through 2-k ohm resistor", 26 FUSE (out) "Fuse drive", 27 VCC (power) "Power supply voltage", 28 PCHG "Pre-charge P-FET gate drive", 29 PACK (power) "Alternate power source", 30 DSG "Discharge N-FET gate drive"

## BQ3055DBTR
designator U?
2-Series, 3-Series, and 4-Series Li-Ion Battery Pack Manager, -40 to 85 degC, 30-pin TSSOP (DBT), Green (RoHS & no Sb/Br); PartNumber: BQ3055DBTR; Manufacturer: Texas Instruments; Lead Acid: N; Li-Ion: Y; SubFamily: Battery Fuel Gauge; DatasheetVersion: SLUSA91A; PackageVersion: 38596; PackageReference: DBT30; PackageDescription: 30-Pin Thin Shrink Small Outline Package 0.5 mm Pitch; Supplier 1: Digi-Key; Supplier Part Number 1: 296-30286-2-ND; Supplier Part Number 3: 296-30286-6-ND; Eco-Plan: Green (RoHS & no Sb/Br); Li-Polymer: Y; NiCd: N; NiMH: N; Over Voltage Protection: N; Mounting Technology: Surface Mount; Code_JEDEC: MO-153; ComponentLink1Description: Datasheet; ComponentLink1URL: http://www.ti.com/general/docs/lit/getliterature.tsp?genericPartNumber=BQ3055&fileType=pdf
footprint DBT30_N (TSSOP, 30-Leads, Body 7.8x4.4mm, Pitch 0.5mm, IPC Medium Density)
footprint DBT30_L (TSSOP, 30-Leads, Body 7.8x4.4mm, Pitch 0.5mm, IPC High Density)
footprint DBT30_M (TSSOP, 30-Leads, Body 7.8x4.4mm, Pitch 0.5mm, IPC Low Density)
pins: 1 CHG "Charge N-FET gate drive", 2 BAT (power) "Alternate power source", 3 VC1 (in) "Sense input for positive voltage of top most cell in stack and cell balancing input for top most cell in stack", 4 VC2 (in) "Sense input for positive voltage of third lowest cell in stack and cell balancing input for third lowest cell in stack", 5 VC3 (in) "Sense input for positive voltage of second lowest cell in stack and cell balancing input for second lowest cell in stack", 6 VC4 (in) "Sense input for positive voltage of lowest cell in stack and cell balancing input for lowest cell in stack", 7 VSS (power) "Device ground", 8 TS1 (in) "Temperature sensor 1 thermistor input", 9 SRP (in) "Differential Coulomb Counter input", 10 SRN (in) "Differential Coulomb Counter input", 11 TS2 (in) "Temperature sensor 2 thermistor input", 12 ~{PRES} (in) "Host system present input", 13 SMBD (io) "SMBus v1.1 data line", 14 NC (power) "Not internally connected, connect to VSS", 15 SMBC (io) "SMBus v1.1 clock line", 16 NC (power) "Not internally connected, connect to VSS", 17 NC (power) "Not internally connected, connect to VSS", 18 NC (power) "Not internally connected, connect to VSS", 19 NC (power) "Not internally connected, connect to VSS", 20 NC (power) "Not internally connected, connect to VSS", 21 RBI (power) "RAM backup", 22 REG25 (power) "2.5-V regulator output", 23 VSS (power) "Device ground", 24 REG33 (power) "3.3-V regulator output", 25 TEST "Test pin, connect to VSS through 2-k ohm resistor", 26 FUSE (out) "Fuse drive", 27 VCC (power) "Power supply voltage", 28 PCHG "Pre-charge P-FET gate drive", 29 PACK (power) "Alternate power source", 30 DSG "Discharge N-FET gate drive"

## BQ3060PW
designator U?
SBS 1.1-Compliant Gas Gauge and Protector, -40 to 85 degC, 24-pin TSSOP (PW), Green (RoHS & no Sb/Br); PartNumber: BQ3060PW; Manufacturer: Texas Instruments; Lead Acid: N; SubFamily: Battery Fuel Gauge; DatasheetVersion: SLUS928A; PackageVersion: revG, Feb-2011; PackageReference: PW24; PackageDescription: 24-Pin Thin Small Outline Package 0.65 mm Pitch; Supplier 1: Digi-Key; Supplier Part Number 1: 296-25544-5-ND; Supplier Part Number 3: 595-BQ3060PW; Eco-Plan: Green (RoHS & no Sb/Br); Li-Ion: N; Li-Polymer: N; NiCd: N; NiMH: N; Over Voltage Protection: N; Mounting Technology: Surface Mount; Code_JEDEC: MO-153; ComponentLink1Description: Datasheet; ComponentLink1URL: http://www.ti.com/general/docs/lit/getliterature.tsp?genericPartNumber=BQ3060&fileType=pdf
footprint PW24_N (TSOP, 24-Leads, Body 7.8x4.4mm, Pitch 0.65mm, IPC Medium Density)
footprint PW24_L (TSOP, 24-Leads, Body 7.8x4.4mm, Pitch 0.65mm, IPC High Density)
footprint PW24_M (TSOP, 24-Leads, Body 7.8x4.4mm, Pitch 0.65mm, IPC Low Density)
pins: 1 BAT (power) "Power input from battery", 2 DSG "P-CH FET Drive controlling discharge", 3 VC1 (in) "Sense voltage input terminal and external cell balancing drive output for most positive cell, and battery stack measurement input.", 4 VC2 (in) "Sense voltage input terminal and external cell balancing drive output for second most positive cell.", 5 VC3 (in) "Sense voltage input terminal and external cell balancing drive output for third most positive cell.", 6 VC4 (in) "Sense voltage input terminal and external cell balancing drive output for least positive cell.", 7 SRP (in) "Analog input pin connected to the internal coulomb-counter peripheral for integrating a small voltage between SRP and SRN where SRP is the top of the sense resistor.", 8 SRN (in) "Analog input pin connected to the internal coulomb-counter peripheral for integrating a small voltage between SRP and SRN where SRN is the bottom of the sense resistor.", 9 TS1 (in) "Thermistor input TS1", 10 TS2 (in) "Thermistor input TS2", 11 NC "Keep this pin floating", 12 NC "Keep this pin floating", 13 NC "Keep this pin floating", 14 SMBD (io) "SMBus data pin", 15 NC "Keep this pin floating", 16 SMBC (io) "SMBus clock pin", 17 ~{PRES} (in) "Active low input to sense system insertion and typically requires additional ESD protection", 18 RBI (power) "RAM backup pin to provide backup potential to the internal DATA RAM if power is momentarily lost by using a capacitor attached between RBI and VSS", 19 VSS (power) "Device ground", 20 REG27 (power) "Internal power supply 2.7V bias output", 21 FUSE (io) "Push-pull fuse drive and secondary protector activation input sensing", 22 ZVCHG "P-CH precharge FET Drive controlling pre-charge and zero-volt charge", 23 CHG "P-CH FET Drive controlling charge", 24 PACK (power) "PACK positive terminal and alternative power source"

## BQ3060PWR
designator U?
SBS 1.1-Compliant Gas Gauge and Protector, -40 to 85 degC, 24-pin TSSOP (PW), Green (RoHS & no Sb/Br); PartNumber: BQ3060PWR; Manufacturer: Texas Instruments; Lead Acid: N; SubFamily: Battery Fuel Gauge; DatasheetVersion: SLUS928A; PackageVersion: revG, Feb-2011; PackageReference: PW24; PackageDescription: 24-Pin Thin Small Outline Package 0.65 mm Pitch; Supplier 1: Digi-Key; Supplier Part Number 1: BQ3060PWR-ND; Supplier Part Number 3: 595-BQ3060PWR; Eco-Plan: Green (RoHS & no Sb/Br); Li-Ion: N; Li-Polymer: N; NiCd: N; NiMH: N; Over Voltage Protection: N; Mounting Technology: Surface Mount; Code_JEDEC: MO-153; ComponentLink1Description: Datasheet; ComponentLink1URL: http://www.ti.com/general/docs/lit/getliterature.tsp?genericPartNumber=BQ3060&fileType=pdf
footprint PW24_N (TSOP, 24-Leads, Body 7.8x4.4mm, Pitch 0.65mm, IPC Medium Density)
footprint PW24_L (TSOP, 24-Leads, Body 7.8x4.4mm, Pitch 0.65mm, IPC High Density)
footprint PW24_M (TSOP, 24-Leads, Body 7.8x4.4mm, Pitch 0.65mm, IPC Low Density)
pins: 1 BAT (power) "Power input from battery", 2 DSG "P-CH FET Drive controlling discharge", 3 VC1 (in) "Sense voltage input terminal and external cell balancing drive output for most positive cell, and battery stack measurement input.", 4 VC2 (in) "Sense voltage input terminal and external cell balancing drive output for second most positive cell.", 5 VC3 (in) "Sense voltage input terminal and external cell balancing drive output for third most positive cell.", 6 VC4 (in) "Sense voltage input terminal and external cell balancing drive output for least positive cell.", 7 SRP (in) "Analog input pin connected to the internal coulomb-counter peripheral for integrating a small voltage between SRP and SRN where SRP is the top of the sense resistor.", 8 SRN (in) "Analog input pin connected to the internal coulomb-counter peripheral for integrating a small voltage between SRP and SRN where SRN is the bottom of the sense resistor.", 9 TS1 (in) "Thermistor input TS1", 10 TS2 (in) "Thermistor input TS2", 11 NC "Keep this pin floating", 12 NC "Keep this pin floating", 13 NC "Keep this pin floating", 14 SMBD (io) "SMBus data pin", 15 NC "Keep this pin floating", 16 SMBC (io) "SMBus clock pin", 17 ~{PRES} (in) "Active low input to sense system insertion and typically requires additional ESD protection", 18 RBI (power) "RAM backup pin to provide backup potential to the internal DATA RAM if power is momentarily lost by using a capacitor attached between RBI and VSS", 19 VSS (power) "Device ground", 20 REG27 (power) "Internal power supply 2.7V bias output", 21 FUSE (io) "Push-pull fuse drive and secondary protector activation input sensing", 22 ZVCHG "P-CH precharge FET Drive controlling pre-charge and zero-volt charge", 23 CHG "P-CH FET Drive controlling charge", 24 PACK (power) "PACK positive terminal and alternative power source"

## BQ24001PWP
designator U?
Linear 1 Cell Li-Ion Battery Charger with Integrated FET, One LED, 4.5 V, 0 to 70 degC, 20-pin HTSSOP (PWP), Green (RoHS & no Sb/Br); PartNumber: BQ24001PWP; Manufacturer: Texas Instruments; Lead Acid: N; Li-Ion: Y; SubFamily: Battery Charge Management; Vin(Min)(V): 4.5; DatasheetVersion: SLUS462E; PackageVersion: revI, May-2011; PackageReference: PWP20-3005X2005TP; PackageDescription: 20-Pin PowerPAD Plastic Small Outline 6.5 x 4.4 mm Body ,0.65 mm Pitch, Exposed Pad; Supplier 1: Digi-Key; Supplier Part Number 1: 296-9378-5-ND; Supplier Part Number 3: 06W0652; Eco-Plan: Green (RoHS & no Sb/Br); Li-Polymer: Y; NiCd: N; NiMH: N; Over Voltage Protection: N; Mounting Technology: Surface Mount; Code_JEDEC: MO-153; ComponentLink1Description: Datasheet; ComponentLink1URL: http://www.ti.com/general/docs/lit/getliterature.tsp?genericPartNumber=BQ24001&fileType=pdf
footprint PWP20-3005X2005TP_N (TSOP, 20-Leads, Body 6.5x4.4mm, Pitch 0.65mm, Thermal Pad 3.7x2.4 mm, IPC Medium Density)
footprint PWP20-3005X2005TP_L (TSOP, 20-Leads, Body 6.5x4.4mm, Pitch 0.65mm, Thermal Pad 3.7x2.4 mm, IPC High Density)
footprint PWP20-3005X2005TP_M (TSOP, 20-Leads, Body 6.5x4.4mm, Pitch 0.65mm, Thermal Pad 3.7x2.4 mm, IPC Low Density)
pins: 1 N/C "No connect. These pins must be left floating. Pin 15 is N/C on bq24001PWP only. Pin 13 is N/C on bq24001RGW only.", 2 IN (power) "Input voltage. This input provides the charging voltage for the battery.", 3 IN (power) "Input voltage. This input provides the charging voltage for the battery.", 4 VCC (power) "Supply voltage", 5 ISNS (in) "Current sense input", 6 N/C "No connect. These pins must be left floating. Pin 15 is N/C on bq24001PWP only. Pin 13 is N/C on bq24001RGW only.", 7 APG/THERM (in) "Adapter power good input/thermistor sense input", 8 EN (in) "Charge-enable input. Active-high enable input with internal pull down. Low-current stand-by mode active when EN is low.", 9 VSEL (in) "4.1 V or 4.2 V charge regulation selection input", 10 GND/HEATSINK (power) "Ground pin; connect to PowerPAD heat-sink layout pattern.", 11 N/C "No connect. These pins must be left floating. Pin 15 is N/C on bq24001PWP only. Pin 13 is N/C on bq24001RGW only.", 12 CR "Internal regulator bypass capacitor", 13 TMR SEL "Charge timer selection input", 14 STAT1 (out) "Status display output 1", 15 N/C "No connect. These pins must be left floating. Pin 15 is N/C on bq24001PWP only. Pin 13 is N/C on bq24001RGW only.", 16 AGND (power) "Ground pin; connect close to the negative battery terminal.", 17 VSENSE (in) "Battery voltage sense input", 18 OUT (power) "Charge current output", 19 OUT (power) "Charge current output", 20 N/C "No connect. These pins must be left floating. Pin 15 is N/C on bq24001PWP only. Pin 13 is N/C on bq24001RGW only.", 21 EP (power) "Exposed pad"